# Altium footprint library SMA-JR.PcbLib: 1 footprints
Each footprint in its own frame and in the unit in brackets; x right, y up, seen from the top. Pads: shape width x height; smd on the part's side, far side on the other; paste and mask are expansions set on the pad; w line width, h text height; cw(c..) or ccw(c..) is an arc to the next point about the centre after c.
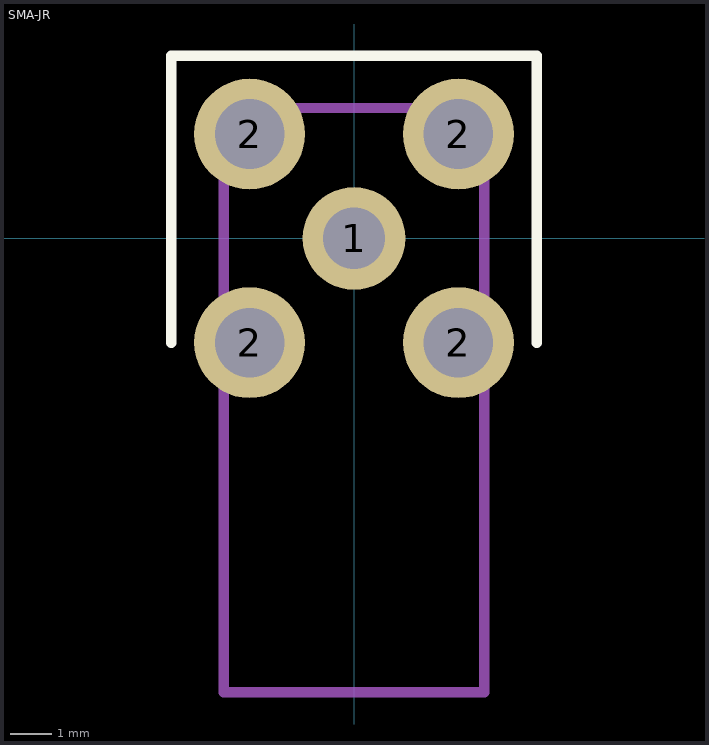
[diagram p0: the footprint, top view; thin cyan lines are the x and y axes]

## SMA-JR [mm]
pads (5):
  round 2.5 hole 1.5: 1(0,0)
  round 2.7 hole 1.7: 2(-2.54,-2.54) 2(-2.54,2.54) 2(2.54,-2.54) 2(2.54,2.54)
Top Overlay:
  lines w0.254: -4.445,-2.54 -4.445,4.445 4.445,4.445 4.445,-2.54
Mechanical 13:
  lines w0.254: -3.175,-11.049 -3.175,3.175 3.175,3.175 3.175,-11.049 -3.175,-11.049
  text ".Designator" at -3.429,5.08 h2.5
3D body: height 10.48, standoff -3.36, extent -3.17,-11.025 3.17,3.175